# EAGLE library part XS1-L1-128 (library xs-1l128)
XMOS XS-L1. 1 Core, 8 threads 400 to 500 MIPS. TQFP-128 (0.4 mm pitch)
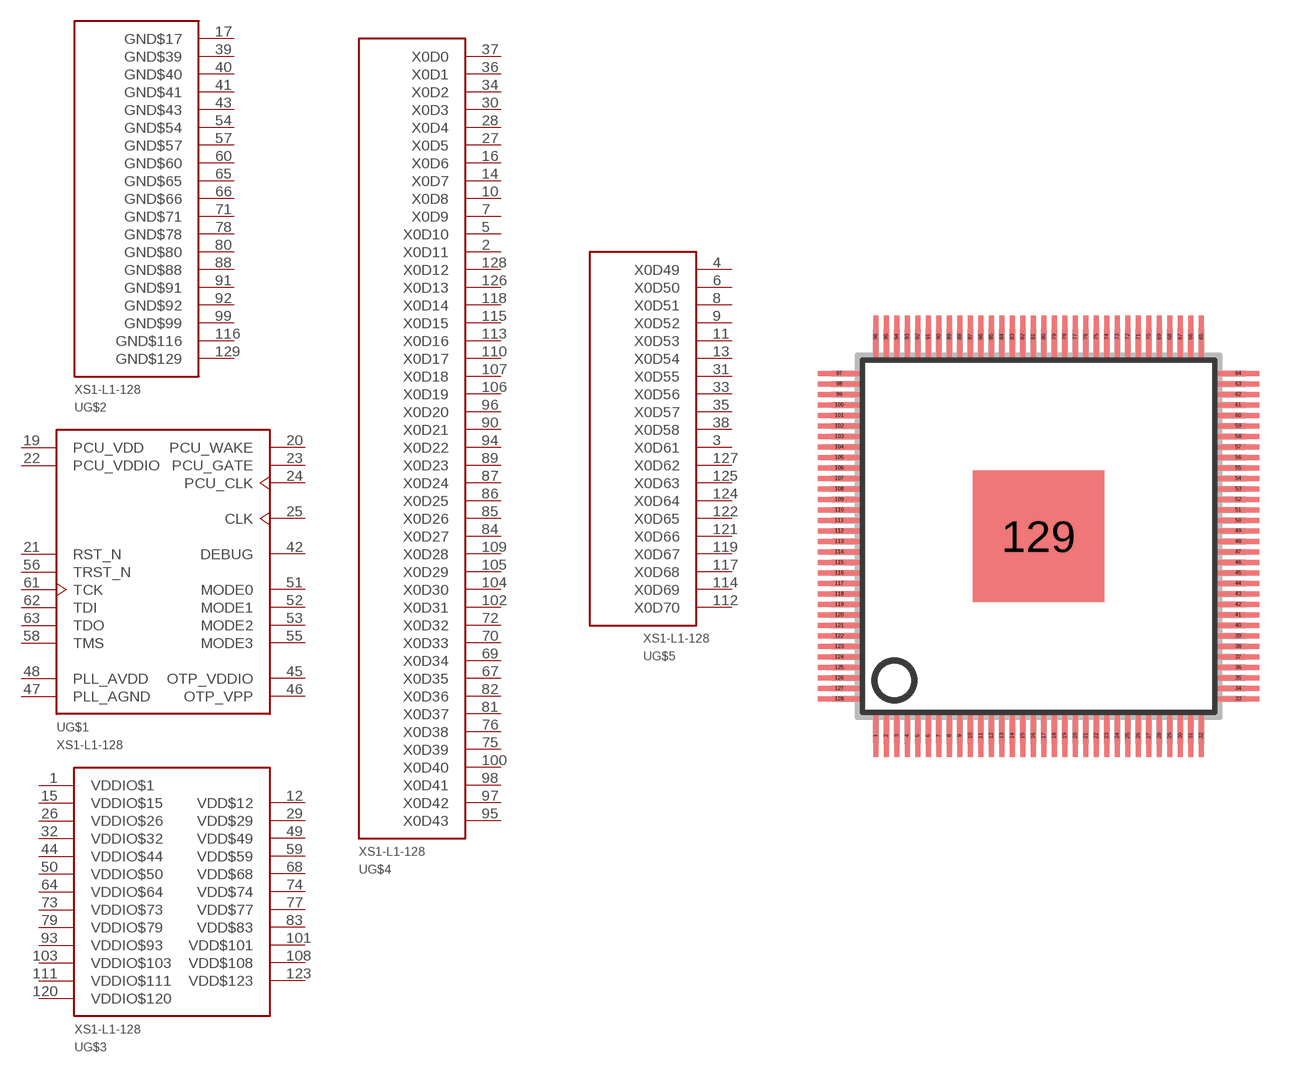
[diagram p0: symbol with the pads of SQFP-S-14X14-128; footprint SQFP-S-14X14-128]

Designator prefix U; gates G$1=CONFIG G$2=POWER G$3=VDD G$4=X0D G$5=X0D49

## XS1-L1-128  [SQFP-S-14X14-128]
1  G$3:VDDIO$1  pwr
2  G$4:X0D11
3  G$5:X0D61
4  G$5:X0D49
5  G$4:X0D10
6  G$5:X0D50
7  G$4:X0D9
8  G$5:X0D51
9  G$5:X0D52
10  G$4:X0D8
11  G$5:X0D53
12  G$3:VDD$12  pwr
13  G$5:X0D54
14  G$4:X0D7
15  G$3:VDDIO$15  pwr
16  G$4:X0D6
17  G$2:GND$17  pwr
19  G$1:PCU_VDD  pwr
20  G$1:PCU_WAKE  in
21  G$1:RST_N  in
22  G$1:PCU_VDDIO  pwr
23  G$1:PCU_GATE  out
24  G$1:PCU_CLK  in
25  G$1:CLK  in
26  G$3:VDDIO$26  pwr
27  G$4:X0D5
28  G$4:X0D4
29  G$3:VDD$29  pwr
30  G$4:X0D3
31  G$5:X0D55
32  G$3:VDDIO$32  pwr
33  G$5:X0D56
34  G$4:X0D2
35  G$5:X0D57
36  G$4:X0D1
37  G$4:X0D0
38  G$5:X0D58
39  G$2:GND$39  pwr
40  G$2:GND$40  pwr
41  G$2:GND$41  pwr
42  G$1:DEBUG  in
43  G$2:GND$43  pwr
44  G$3:VDDIO$44  pwr
45  G$1:OTP_VDDIO  pwr
46  G$1:OTP_VPP  pwr
47  G$1:PLL_AGND  pwr
48  G$1:PLL_AVDD  pwr
49  G$3:VDD$49  pwr
50  G$3:VDDIO$50  pwr
51  G$1:MODE0  in
52  G$1:MODE1  in
53  G$1:MODE2  in
54  G$2:GND$54  pwr
55  G$1:MODE3  in
56  G$1:TRST_N  in
57  G$2:GND$57  pwr
58  G$1:TMS  in
59  G$3:VDD$59  pwr
60  G$2:GND$60  pwr
61  G$1:TCK  in
62  G$1:TDI  in
63  G$1:TDO  out
64  G$3:VDDIO$64  pwr
65  G$2:GND$65  pwr
66  G$2:GND$66  pwr
67  G$4:X0D35
68  G$3:VDD$68  pwr
69  G$4:X0D34
70  G$4:X0D33
71  G$2:GND$71  pwr
72  G$4:X0D32
73  G$3:VDDIO$73  pwr
74  G$3:VDD$74  pwr
75  G$4:X0D39
76  G$4:X0D38
77  G$3:VDD$77  pwr
78  G$2:GND$78  pwr
79  G$3:VDDIO$79  pwr
80  G$2:GND$80  pwr
81  G$4:X0D37
82  G$4:X0D36
83  G$3:VDD$83  pwr
84  G$4:X0D27
85  G$4:X0D26
86  G$4:X0D25
87  G$4:X0D24
88  G$2:GND$88  pwr
89  G$4:X0D23
90  G$4:X0D21
91  G$2:GND$91  pwr
92  G$2:GND$92  pwr
93  G$3:VDDIO$93  pwr
94  G$4:X0D22
95  G$4:X0D43
96  G$4:X0D20
97  G$4:X0D42
98  G$4:X0D41
99  G$2:GND$99  pwr
100  G$4:X0D40
101  G$3:VDD$101  pwr
102  G$4:X0D31
103  G$3:VDDIO$103  pwr
104  G$4:X0D30
105  G$4:X0D29
106  G$4:X0D19
107  G$4:X0D18
108  G$3:VDD$108  pwr
109  G$4:X0D28
110  G$4:X0D17
111  G$3:VDDIO$111  pwr
112  G$5:X0D70
113  G$4:X0D16
114  G$5:X0D69
115  G$4:X0D15
116  G$2:GND$116  pwr
117  G$5:X0D68
118  G$4:X0D14
119  G$5:X0D67
120  G$3:VDDIO$120  pwr
121  G$5:X0D66
122  G$5:X0D65
123  G$3:VDD$123  pwr
124  G$5:X0D64
125  G$5:X0D63
126  G$4:X0D13
127  G$5:X0D62
128  G$4:X0D12
129  G$2:GND$129  pwr

## Footprint SQFP-S-14X14-128 (pad centres in mm)
QFP128 shrink quad flat pack, square
smd 0.2 x 1.6: 1 -6.2,-7.6; 2 -5.8,-7.6; 3 -5.4,-7.6; 4 -5,-7.6; 5 -4.6,-7.6; 6 -4.2,-7.6; 7 -3.8,-7.6; 8 -3.4,-7.6; 9 -3,-7.6; 10 -2.6,-7.6; 11 -2.2,-7.6; 12 -1.8,-7.6; 13 -1.4,-7.6; 14 -1,-7.6; 15 -0.6,-7.6; 16 -0.2,-7.6; 17 0.2,-7.6; 18 0.6,-7.6; 19 1,-7.6; 20 1.4,-7.6; 21 1.8,-7.6; 22 2.2,-7.6; 23 2.6,-7.6; 24 3,-7.6; 25 3.4,-7.6; 26 3.8,-7.6; 27 4.2,-7.6; 28 4.6,-7.6; 29 5,-7.6; 30 5.4,-7.6; 31 5.8,-7.6; 32 6.2,-7.6; 65 6.2,7.6; 66 5.8,7.6; 67 5.4,7.6; 68 5,7.6; 69 4.6,7.6; 70 4.2,7.6; 71 3.8,7.6; 72 3.4,7.6; 73 3,7.6; 74 2.6,7.6; 75 2.2,7.6; 76 1.8,7.6; 77 1.4,7.6; 78 1,7.6; 79 0.6,7.6; 80 0.2,7.6; 81 -0.2,7.6; 82 -0.6,7.6; 83 -1,7.6; 84 -1.4,7.6; 85 -1.8,7.6; 86 -2.2,7.6; 87 -2.6,7.6; 88 -3,7.6; 89 -3.4,7.6; 90 -3.8,7.6; 91 -4.2,7.6; 92 -4.6,7.6; 93 -5,7.6; 94 -5.4,7.6; 95 -5.8,7.6; 96 -6.2,7.6
smd 1.6 x 0.2: 33 7.6,-6.2; 34 7.6,-5.8; 35 7.6,-5.4; 36 7.6,-5; 37 7.6,-4.6; 38 7.6,-4.2; 39 7.6,-3.8; 40 7.6,-3.4; 41 7.6,-3; 42 7.6,-2.6; 43 7.6,-2.2; 44 7.6,-1.8; 45 7.6,-1.4; 46 7.6,-1; 47 7.6,-0.6; 48 7.6,-0.2; 49 7.6,0.2; 50 7.6,0.6; 51 7.6,1; 52 7.6,1.4; 53 7.6,1.8; 54 7.6,2.2; 55 7.6,2.6; 56 7.6,3; 57 7.6,3.4; 58 7.6,3.8; 59 7.6,4.2; 60 7.6,4.6; 61 7.6,5; 62 7.6,5.4; 63 7.6,5.8; 64 7.6,6.2; 97 -7.6,6.2; 98 -7.6,5.8; 99 -7.6,5.4; 100 -7.6,5; 101 -7.6,4.6; 102 -7.6,4.2; 103 -7.6,3.8; 104 -7.6,3.4; 105 -7.6,3; 106 -7.6,2.6; 107 -7.6,2.2; 108 -7.6,1.8; 109 -7.6,1.4; 110 -7.6,1; 111 -7.6,0.6; 112 -7.6,0.2; 113 -7.6,-0.2; 114 -7.6,-0.6; 115 -7.6,-1; 116 -7.6,-1.4; 117 -7.6,-1.8; 118 -7.6,-2.2; 119 -7.6,-2.6; 120 -7.6,-3; 121 -7.6,-3.4; 122 -7.6,-3.8; 123 -7.6,-4.2; 124 -7.6,-4.6; 125 -7.6,-5; 126 -7.6,-5.4; 127 -7.6,-5.8; 128 -7.6,-6.2
smd 5 x 5: 129 0,0